# Altium footprint library HDRV3W64P254_3X1_762X250X895N.PcbLib: 1 footprints
Each footprint in its own frame and in the unit in brackets; x right, y up, seen from the top. Pads: shape width x height; smd on the part's side, far side on the other; paste and mask are expansions set on the pad; w line width, h text height; cw(c..) or ccw(c..) is an arc to the next point about the centre after c.
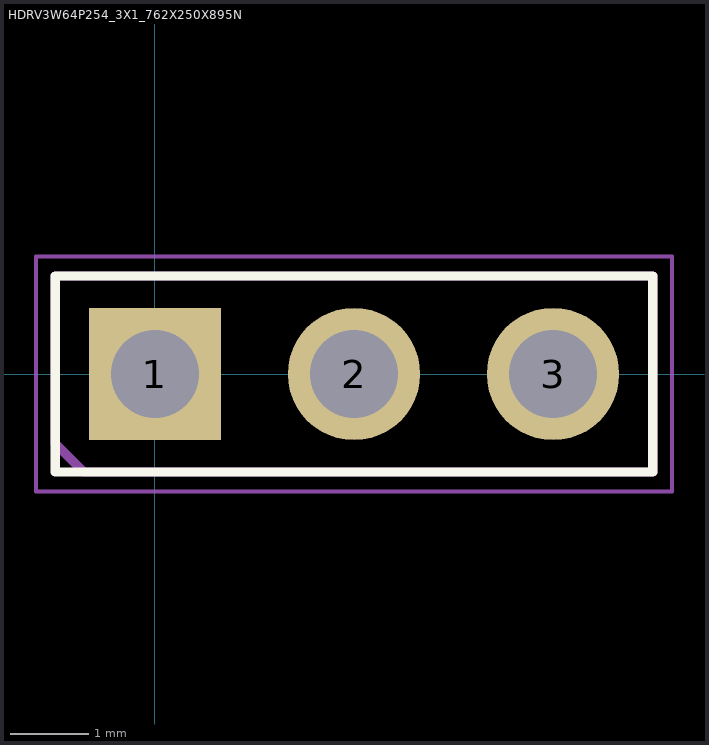
[diagram p0: the footprint, top view; thin cyan lines are the x and y axes]

## HDRV3W64P254_3X1_762X250X895N [mil] "Header, Vertical Non-Shroulded, 2.54 mm pitch; 0.69 mm lead width, 3 pins, 1 row, 3 pins per row, 7.62 mm L X 2.50 mm W X 8.95 mm H Body"
height 352.36
pads (3):
  rect 66.5x66.5 / inner round 66.5 / far side rect 66.5x66.5 hole 44.33 paste-66.5: 1(0,0)
  round 66.5 hole 44.33 paste-66.5: 2(100,0) 3(200,0)
Top Overlay:
  lines w4.72: -50,-49.21 -50,49.21 250,49.21 250,-49.21 -50,-49.21
Mechanical 3:
  lines w4.72: -50,-35 -50,49.21 250,49.21 250,-49.21 -35.79,-49.21 -50,-35
Mechanical 5:
  lines w0.98: -50,-49.21 -50,49.21 250,49.21 250,-49.21 -50,-49.21 ; -13.58,-13.58 -13.58,13.58 13.58,13.58 13.58,-13.58 -13.58,-13.58 ; 86.42,-13.58 86.42,13.58 113.58,13.58 113.58,-13.58 86.42,-13.58 ; 186.42,-13.58 186.42,13.58 213.58,13.58 213.58,-13.58 186.42,-13.58
Mechanical 7:
  circle w1.97: c0,0 r9.84
  lines w1.97: -13.78,0 13.78,0 ; 0,-13.78 0,13.78 ; -59.84,-59.06 -59.84,59.06 259.84,59.06 259.84,-59.06 -59.84,-59.06
Mechanical 9:
  text "'.Designator'" at -124,-15.67 h40
3D body "HDRV3W64P254_3X1_762X250X895.STEP": height 352.36, standoff -78.74, extent -50,-49.21 250,49.21
3D body: height 921.26, standoff 0, extent -59.84,-59.06 259.84,59.06